# EAGLE library part MP1584 (library CanCubeSat)
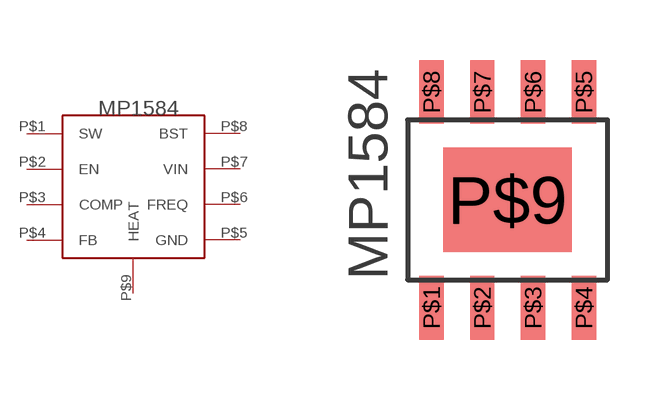
[diagram p19: symbol with the pads of SOIC8+HEAT_L; footprint SOIC8+HEAT_L]

Designator prefix -

## MP1584  [SOIC8+HEAT_L]
P$1  SW
P$2  EN
P$3  COMP
P$4  FB
P$5  GND
P$6  FREQ
P$7  VIN
P$8  BST
P$9  HEAT

## Footprint SOIC8+HEAT_L (pad centres in mm)
smd 0.61 x 1.6: P$1 -1.905,-2.7; P$2 -0.635,-2.7; P$3 0.635,-2.7; P$4 1.905,-2.7; P$5 1.905,2.7; P$6 0.635,2.7; P$7 -0.635,2.7; P$8 -1.905,2.7
smd 3.21 x 2.62: P$9 0,0